# Altium schematic symbol library SCH - DIODES - ZENER_BZX84C15.SCHLIB: 1 symbol
Pins are listed as number, name and electrical type; pins without a type are passive.

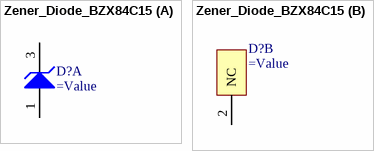
[diagram p0: symbol Zener_Diode_BZX84C15]

## Zener_Diode_BZX84C15
designator D?
Zener Voltage Regulator, 225 mW, 3-Pin SOT-23
part A pins: 1 A, 3 K
part B pins: 2 NC